# EAGLE library part MT25QL512_16SOP2 (library MT25QL512_8)
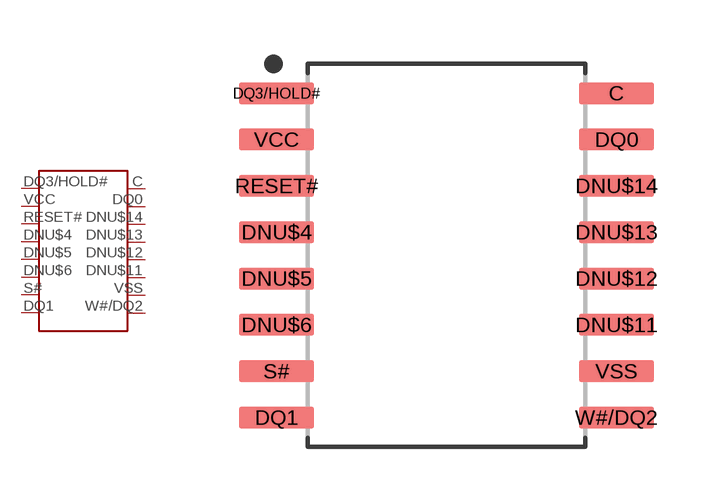
[diagram p0: symbol with the pads of SOIC127P1032X265-16N; footprint SOIC127P1032X265-16N]

Designator prefix -

## MT25QL512_16SOP2  [SOIC127P1032X265-16N]
C  C
DNU$4  DNU$4
DNU$5  DNU$5
DNU$6  DNU$6
DNU$11  DNU$11
DNU$12  DNU$12
DNU$13  DNU$13
DNU$14  DNU$14
DQ0  DQ0
DQ1  DQ1
DQ3/HOLD#  DQ3/HOLD#
RESET#  RESET#
S#  S#
VCC  VCC
VSS  VSS
W#/DQ2  W#/DQ2

## Footprint SOIC127P1032X265-16N (pad centres in mm)
16-SOIC, 1.27 mm pitch, 10.32 mm span, 10.30 X 7.50 X 2.65 mm body 16-pin SOIC package with 1.27 mm pitch, 10.32 mm span with body size 10.30 X 7.50 X 2.65 mm
smd 2.052 x 0.602: C 4.654,4.445; DNU$4 -4.654,0.635; DNU$5 -4.654,-0.635; DNU$6 -4.654,-1.905; DNU$11 4.654,-1.905; DNU$12 4.654,-0.635; DNU$13 4.654,0.635; DNU$14 4.654,1.905; DQ0 4.654,3.175; DQ1 -4.654,-4.445; DQ3/HOLD# -4.654,4.445; RESET# -4.654,1.905; S# -4.654,-3.175; VCC -4.654,3.175; VSS 4.654,-3.175; W#/DQ2 4.654,-4.445